# Altium integrated library SMD Tantalum Cap Lib.IntLib: 7 symbols
Pins are listed as number, name and electrical type; pins without a type are passive.

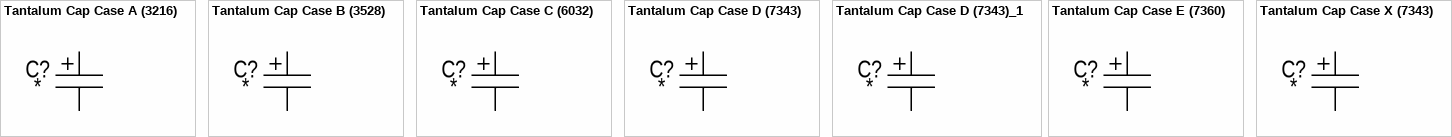
[diagram p0: symbols Tantalum Cap Case A (3216) to Tantalum Cap Case X (7343)]

## Tantalum Cap Case A (3216)
designator C?, comment Tantalum SMD Capacitors, Case A  (value not drawn)
Manufacture: Kemet; Case: Case A (3216); Model: *; ComponentLink1Description: Kemet Tantalum SMD Capacitors; ComponentLink1URL: http://www.kemet.com/Lists/ProductCatalog/Attachments/253/KEM_TC101_STD.pdf; Value: *
footprint Tantalum Cap Case A (3216) (Tantalum SMD Capacitors, Case A)
pins: 1 + "Positive Electrode", 2 - "Negative Electrode"

## Tantalum Cap Case B (3528)
designator C?, comment Tantalum SMD Capacitors, Case B  (value not drawn)
Manufacture: Kemet; Case: Case B (3528); Model: *; ComponentLink1Description: Kemet Tantalum SMD Capacitors; ComponentLink1URL: http://www.kemet.com/Lists/ProductCatalog/Attachments/253/KEM_TC101_STD.pdf; Value: *
footprint Tantalum Cap Case B (3528) (Tantalum SMD Capacitors, Case B)
pins: 1 + "Positive Electrode", 2 - "Negative Electrode"

## Tantalum Cap Case C (6032)
designator C?, comment Tantalum SMD Capacitors, Case C  (value not drawn)
Manufacture: Kemet; Case: Case C (6032); Model: *; ComponentLink1Description: Kemet Tantalum SMD Capacitors; ComponentLink1URL: http://www.kemet.com/Lists/ProductCatalog/Attachments/253/KEM_TC101_STD.pdf; Value: *
footprint Tantalum Cap Case C (6032) (Tantalum SMD Capacitors, Case C)
pins: 1 + "Positive Electrode", 2 - "Negative Electrode"

## Tantalum Cap Case D (7343)
designator C?, comment Tantalum SMD Capacitors, Case D  (value not drawn)
Manufacture: Kemet; Case: Case E (7360); Model: *; ComponentLink1Description: Kemet Tantalum SMD Capacitors; ComponentLink1URL: http://www.kemet.com/Lists/ProductCatalog/Attachments/253/KEM_TC101_STD.pdf; Value: *
footprint Tantalum Cap Case E (7360) (Tantalum SMD Capacitors, Case E)
pins: 1 + "Positive Electrode", 2 - "Negative Electrode"

## Tantalum Cap Case D (7343)_1
designator C?, comment Tantalum SMD Capacitors, Case D  (value not drawn)
Manufacture: Kemet; Case: Case D (7343); Model: *; ComponentLink1Description: Kemet Tantalum SMD Capacitors; ComponentLink1URL: http://www.kemet.com/Lists/ProductCatalog/Attachments/253/KEM_TC101_STD.pdf; Value: *
footprint Tantalum Cap Case D (7343) (Tantalum SMD Capacitors, Case D)
pins: 1 + "Positive Electrode", 2 - "Negative Electrode"

## Tantalum Cap Case E (7360)
designator C?, comment Tantalum SMD Capacitors, Case E  (value not drawn)
Manufacture: Kemet; Case: Case E (7360); Model: *; ComponentLink1Description: Kemet Tantalum SMD Capacitors; ComponentLink1URL: http://www.kemet.com/Lists/ProductCatalog/Attachments/253/KEM_TC101_STD.pdf; Value: *
footprint Tantalum Cap Case E (7360) (Tantalum SMD Capacitors, Case E)
pins: 1 + "Positive Electrode", 2 - "Negative Electrode"

## Tantalum Cap Case X (7343)
designator C?, comment Tantalum SMD Capacitors, Case X  (value not drawn)
Manufacture: Kemet; Case: Case X (7343); Model: *; ComponentLink1Description: Kemet Tantalum SMD Capacitors; ComponentLink1URL: http://www.kemet.com/Lists/ProductCatalog/Attachments/253/KEM_TC101_STD.pdf; Value: *
footprint Tantalum Cap Case X (7343) (Tantalum SMD Capacitors, Case X)
pins: 1 + "Positive Electrode", 2 - "Negative Electrode"